# EAGLE library part GY-291 (library GY-291)
Module with ADXL345 3-axis accelerometer
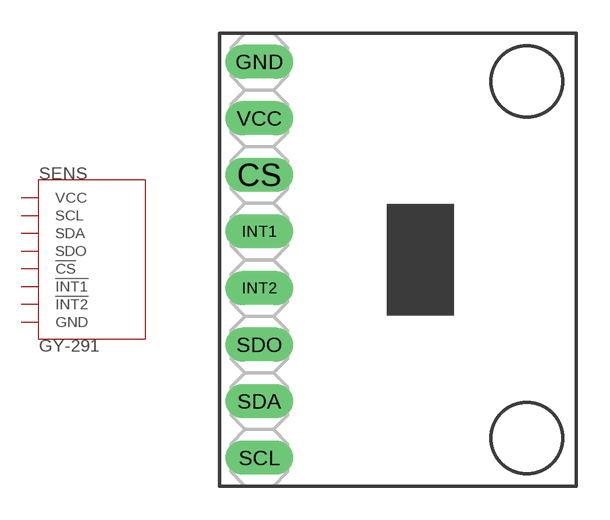
[diagram p0: symbol with the pads of GY-291; footprint GY-291]

Designator prefix SENS

## GY-291  [GY-291]
CS  !CS!
GND  GND
INT1  !INT1!
INT2  !INT2!
SCL  SCL
SDA  SDA
SDO  SDO
VCC  VCC

## Footprint GY-291 (pad centres in mm)
PIN HEADER
drill 1.016 long: CS 0,3.81; GND 0,8.89; INT1 0,1.27; INT2 0,-1.27; SCL 0,-8.89; SDA 0,-6.35; SDO 0,-3.81; VCC 0,6.35